# EAGLE library part CONN_USB (library vikc-connector)
USB B type Micro Connector
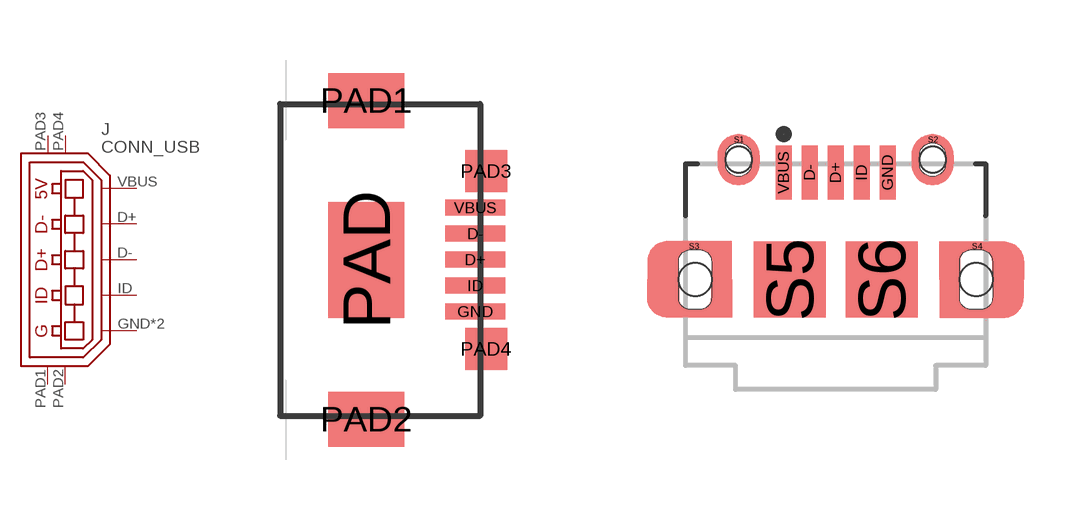
[diagram p3: symbol with the pads of USB-MICRO; footprints USB-MICRO, USB-MICROB-PTH]

Designator prefix J

## CONN_USB  [USB-MICRO]
D+  D-
D-  D+
GND  GND
ID  ID
PAD  GND
PAD1  SHIELD1
PAD2  SHIELD2
PAD3  SHIELD3
PAD4  SHIELD4
VBUS  VBUS

## CONN_USB-2PAD  [USB-MICROB-PTH]
D+  D+
D-  D-
GND  GND
ID  ID
S1  SHIELD1
S2  SHIELD2
S3  SHIELD3
S4  SHIELD4
VBUS  VBUS

## Footprint USB-MICRO (pad centres in mm)
smd 1.5 x 0.4: D+ 2.727,0; D- 2.727,0.65; GND 2.727,-1.3; ID 2.727,-0.65; VBUS 2.727,1.3
smd 1.9 x 2.9: PAD 0,0
smd 1.9 x 1.375: PAD1 0,3.987; PAD2 0,-3.988
smd 1.05 x 1.05: PAD3 3,2.225; PAD4 3,-2.225

## Footprint USB-MICROB-PTH (pad centres in mm)
smd 0.4 x 1.35: D+ 0,2.675; D- -0.65,2.675; GND 1.3,2.675; ID 0.65,2.675; VBUS -1.3,2.675
smd 0.1 x 0.1: S1 -2.413,3.508; S2 2.437,3.508; S3 -3.538,0.839; S4 3.538,0.839
smd 1.8 x 1.9: S5 -1.15,0; S6 1.15,0
hole 0.65 at -2.425,3
hole 0.65 at 2.425,3
hole 0.825 at -3.513,0
hole 0.825 at 3.513,0